# Altium footprint library CAPAE830X1000N.PcbLib: 1 footprints
Each footprint in its own frame and in the unit in brackets; x right, y up, seen from the top. Pads: shape width x height; smd on the part's side, far side on the other; paste and mask are expansions set on the pad; w line width, h text height; cw(c..) or ccw(c..) is an arc to the next point about the centre after c.
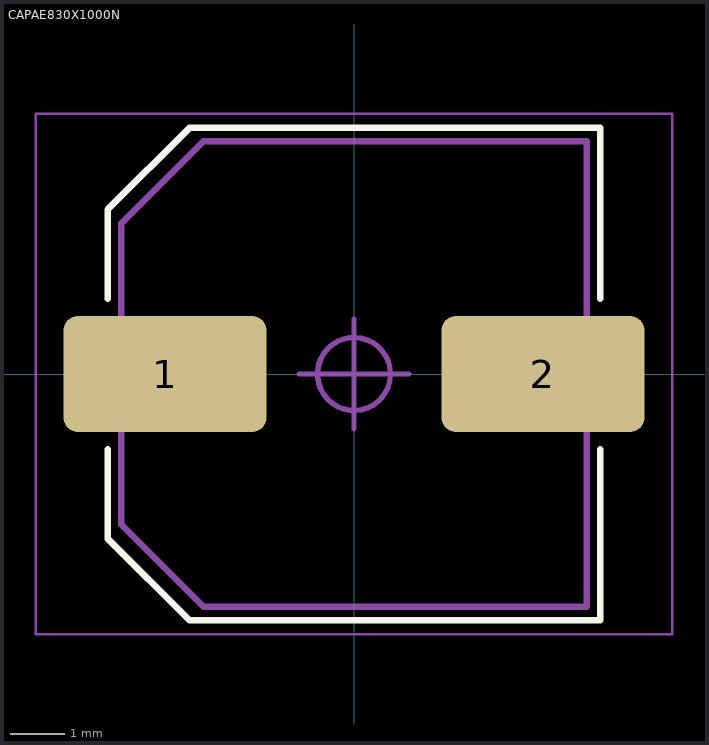
[diagram p0: the footprint, top view; thin cyan lines are the x and y axes]

## CAPAE830X1000N [mm]
pads (2):
  rrect25% 3.71x2.12 smd: 1(-3.45,0) 2(3.45,0)
Top Overlay:
  lines w0.12: -4.5,-1.375 -4.5,-3.005 -2.998,-4.5 4.5,-4.5 4.5,-1.375 ; -4.5,1.375 -4.5,3.002 -2.995,4.5 4.5,4.5 4.5,1.375
Top Component Outline:
  lines w0.12: -4.25,-2.75 -2.75,-4.25 4.25,-4.25 4.25,4.25 -2.75,4.25 -4.25,2.75 -4.25,-2.75
Top Courtyard (Mech15):
  circle w0.1: c0,0 r0.667
  lines w0.05: -5.81,-4.75 5.81,-4.75 5.81,4.75 -5.81,4.75 -5.81,-4.75
  lines w0.1: -1,0 1,0 ; 0,-1 0,1
3D body "EL_CAP_8mmx10mm.STEP": height 10.3, standoff -0.2, extent -4.852,-4.25 4.848,4.25